# Altium footprint library MQ7.PcbLib: 1 footprints
Each footprint in its own frame and in the unit in brackets; x right, y up, seen from the top. Pads: shape width x height; smd on the part's side, far side on the other; paste and mask are expansions set on the pad; w line width, h text height; cw(c..) or ccw(c..) is an arc to the next point about the centre after c.
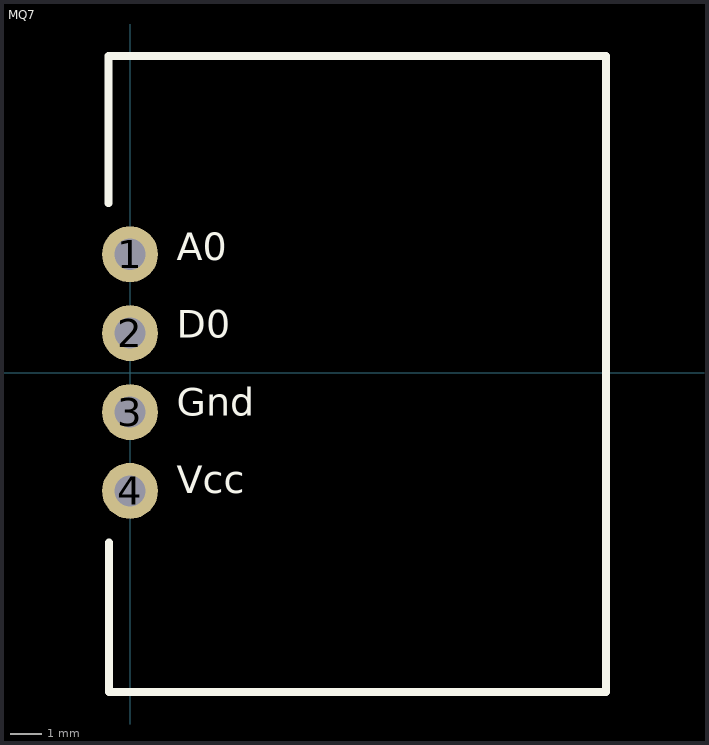
[diagram p0: the footprint, top view; thin cyan lines are the x and y axes]

## MQ7 [mm]
pads (4):
  round 1.8 hole 1: 1(0,3.81) 2(0,1.27) 3(0,-1.27) 4(0,-3.81)
Top Overlay:
  lines w0.254: -0.691,5.453 -0.691,10.198 15.312,10.198 15.322,10.188 15.322,-10.287 15.321,-10.288 -0.674,-10.288 -0.68,-10.282 -0.68,-5.465
  text "Vcc" at 1.501,-4.174 h1.52
  text "Gnd" at 1.5,-1.673 h1.52
  text "D0" at 1.5,0.827 h1.52
  text "A0" at 1.5,3.327 h1.52
3D body "MQ 7 Sensor.SLDPRT": height 39.05, standoff 0.58, extent -0.678,-10.298 15.322,10.202
3D body "jumper cai 4x2.54.step": height 5.25, standoff -2.75, extent -1.25,-5.33 1.25,5.33